# Altium schematic symbol library Capacitor_Ceramic.SchLib: 1 symbol
Pins are listed as number, name and electrical type; pins without a type are passive.

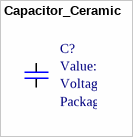
[diagram p0: symbol Capacitor_Ceramic]

## Capacitor_Ceramic
designator C?
Component Category: Capacitor; ComponentLink1Description: Datasheet; ComponentLink1URL: *; ComponentLink2Description: Supplier Link; ComponentLink2URL: *; Temperature Coefficient: *; Manufacturer Part Number: *; Supplier: *; Supplier Part Number: *; Manufacturer: *; Operating Temperature, Min: *℃; Operating Temperature, Max: *℃; Quantity, Min: *; Quantity, Max: *; Price, Min: *; Supplier Currency: *; Price, Max: *; Supplier Link: *; Tolerance: *; Component Type: Ceramic; Voltage: *; Value: *; Package: *
footprint Capacitor_Ceramic_M0603_I0201
footprint Capacitor_Ceramic_M1005_I0402
footprint Capacitor_Ceramic_M1608_I0603
footprint Capacitor_Ceramic_M2012_I0805
footprint Capacitor_Ceramic_M3216_I1206
footprint Capacitor_Ceramic_M3225_I1210
footprint Capacitor_Ceramic_M3246_I1812
footprint Capacitor_Ceramic_M5025_I2010
footprint Capacitor_Ceramic_M6332_I2512
pins: 1, 2